# Altium integrated library 10103594-0001LF.IntLib: 1 symbol
Pins are listed as number, name and electrical type; pins without a type are passive.

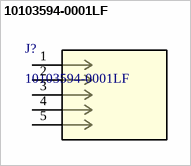
[diagram p0: symbol 10103594-0001LF]

## 10103594-0001LF
designator J?
No Description Available; Vendor: Amphenol; Built_By: EMA_Cory; SourceLibrary: Add_to_database_2020-12-24; Datasheet: https://cdn.amphenol-icc.com/media/wysiwyg/files/drawing/10103594.pdf?__cf_chl_jschl_tk__=c68a578bfdc29133bdc1885b7a1ccadaf6a520d7-1608837735-0-AVQXhLW1pKEFEp-U-rGkFGI6VLvG4HqH5qQRl63yfBEr7IUnTc2ui5oW1NncqoJTmz7MGU2qdVw84p-TLl6WOy7RMr1gn8G7B6sVihKZyLq-hinRLLvBUFzApz0lYHM2UfFO2eA9wihvli7N6aHYddCibY8BEHE_nCVEZMDtC1w6wcpCEOgC_J7Ke1w7kld41B8fmJmhc8ClVo7W4CJf_-gO3TFeFK69FqkHJBRqb6o1jkDzKCGdsI13E9qJ4n1oPj6K5djYeJKKXAZCxbtVm8ZJntIyQqwp5It-n1WTa4aKNmWF-BFG4mXwTRUURNojG5TmA5jd9rfXBEMy5mAp5BMkCB02-0I1JIVDHpb-nTJmnaNP-JZNA0IlmJlVrCEbjpUD6SjPwC-2UMNT2rUen8buap-ckVTb-tDjei7ZeNEj; Manufacturer_Part_Number: 10103594-0001LF; Copyright: Copyright (C) 2018 Accelerated Designs. All rights reserved; RefDes: RefDes; Type: DEV
footprint CONN_10103594-0001LF_AMP
pins: 1, 2, 3, 4, 5